# Altium schematic symbol library DIODE_TVS_UNI.Schlib: 1 symbol
Pins are listed as number, name and electrical type; pins without a type are passive.

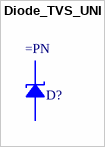
[diagram p0: symbol Diode_TVS_UNI]

## Diode_TVS_UNI
designator D?
Unidirectional TVS Diode
pins: 1, 2